# Altium footprint library AH374-SC59.PcbLib: 1 footprints
Each footprint in its own frame and in the unit in brackets; x right, y up, seen from the top. Pads: shape width x height; smd on the part's side, far side on the other; paste and mask are expansions set on the pad; w line width, h text height; cw(c..) or ccw(c..) is an arc to the next point about the centre after c.
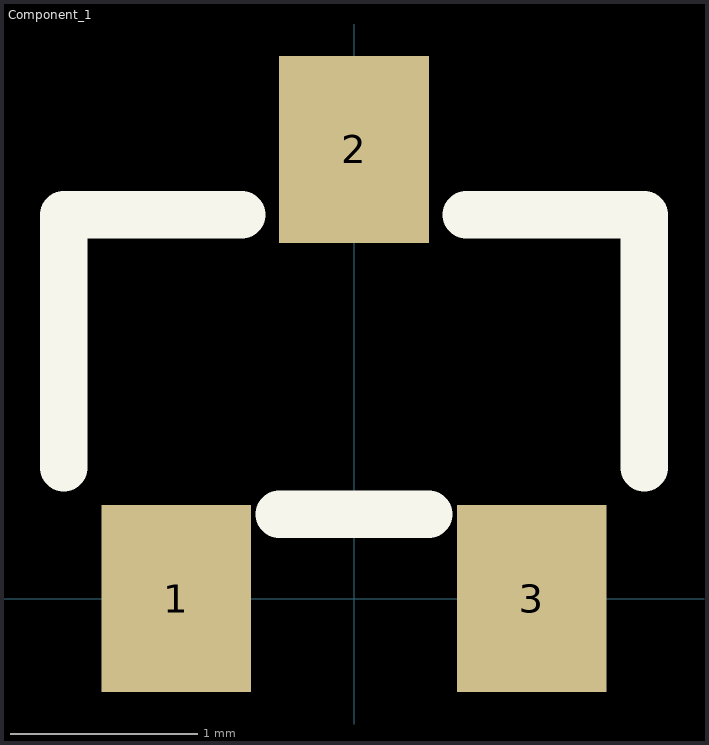
[diagram p0: the footprint, top view; thin cyan lines are the x and y axes]

## Component_1 [mm]
height 1.5
pads (3):
  rect 0.8x1 smd: 1(-0.95,0) 2(0,2.4) 3(0.95,0)
Top Overlay:
  lines w0.254: -1.55,0.7 -1.55,1.7 -1.55,2.05 -0.6,2.05 ; -0.4,0.45 0.4,0.45 ; 0.6,2.05 1.55,2.05 1.55,1.65 1.55,0.7
3D body: height 0.25, standoff 0, extent -1.65,2.25 -1.65,2.25
3D body: height 1.15, standoff 0, extent -1.55,0.444 1.55,2.056